# Altium schematic symbol library SY6280AAC.SchLib: 1 symbol
Pins are listed as number, name and electrical type; pins without a type are passive.

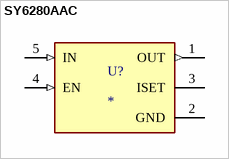
[diagram p0: symbol SY6280AAC]

## SY6280AAC
designator U?
MF: {'manufacturer': u'Silergy'}; MP: SY6280AAC; Package: None; Price: None; Value: *; Availability: Unavailable
footprint SOT95P285X130-5N
pins: 1 OUT (out), 2 GND (power), 3 ISET, 4 EN (in), 5 IN (in)